# EAGLE library part ISL6605CBZ (library Intersil_By_element14_Batch_1)
Synchronous Rectified MOSFET Driver
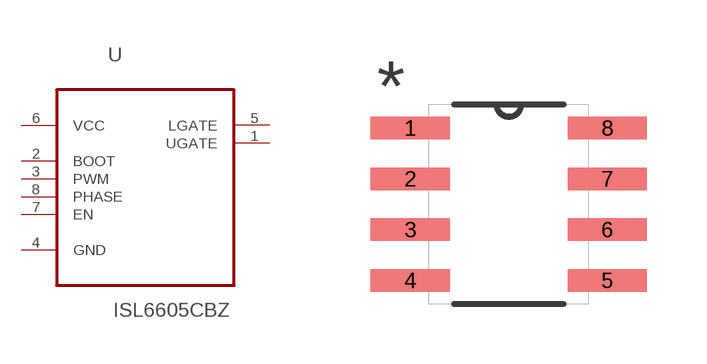
[diagram p222: symbol with the pads of SOIC127P600X175-8N; footprint SOIC127P600X175-8N]

Designator prefix U

## ISL6605CBZ (MPN: ISL6605CBZ; OC_FARNELL: 1561971; OC_NEWARK: 11J9032; PACKAGE: SOIC-8; SUPPLIER: INTERSIL)  [SOIC127P600X175-8N]
1  UGATE  out
2  BOOT  in
3  PWM  in
4  GND  pas
5  LGATE  out
6  VCC  pwr
7  EN  in
8  PHASE  in

## Footprint SOIC127P600X175-8N (pad centres in mm)
smd 1.981 x 0.559: 1 -2.464,1.905; 2 -2.464,0.635; 3 -2.464,-0.635; 4 -2.464,-1.905; 5 2.464,-1.905; 6 2.464,-0.635; 7 2.464,0.635; 8 2.464,1.905